# Altium footprint library SOP8.PcbLib: 1 footprints
Each footprint in its own frame and in the unit in brackets; x right, y up, seen from the top. Pads: shape width x height; smd on the part's side, far side on the other; paste and mask are expansions set on the pad; w line width, h text height; cw(c..) or ccw(c..) is an arc to the next point about the centre after c.
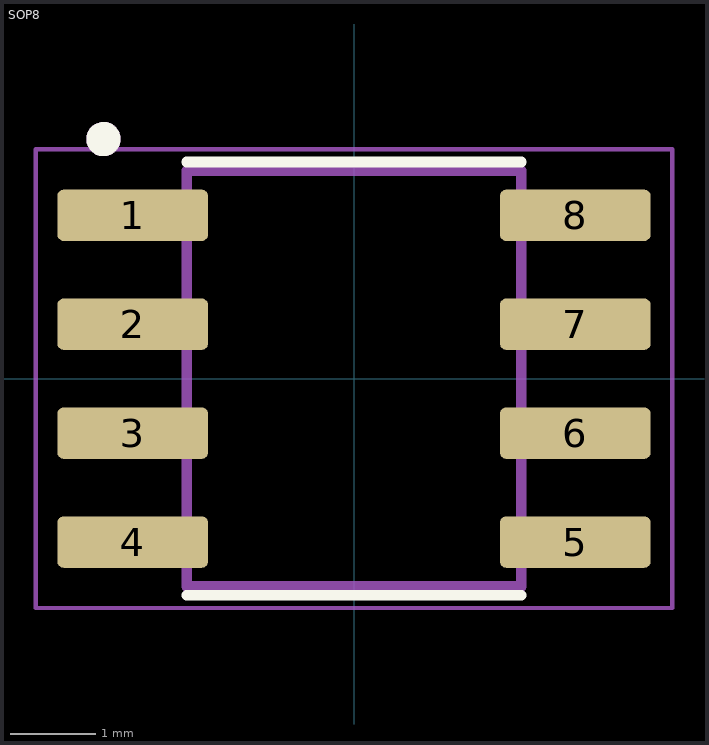
[diagram p0: the footprint, top view; thin cyan lines are the x and y axes]

## SOP8 [mm]
pads (8):
  rrect25% 1.76x0.6 smd: 1(-2.58,1.905) 2(-2.58,0.635) 3(-2.58,-0.635) 4(-2.58,-1.905) 5(2.58,-1.905) 6(2.58,-0.635) 7(2.58,0.635) 8(2.58,1.905)
Top Overlay:
  circle w0.2: c-2.921,2.794 r0.1
  lines w0.127: -1.95,-2.525 1.95,-2.525 ; -1.95,2.525 1.95,2.525
Mechanical 13:
  circle w0.2: c-2.921,2.794 r0.1
  lines w0.127: -1.95,-2.425 -1.95,2.425 1.95,2.425 1.95,-2.425 -1.95,-2.425
Mechanical 15:
  lines w0.05: -3.71,-2.675 -3.71,2.675 3.71,2.675 3.71,-2.675 -3.71,-2.675
3D body "step_temp.STEP": height 2.1, standoff 0, extent -3,-2.425 3,2.425